# Altium integrated library TI Power Management Step-Down Regulator.IntLib: 565 symbols (part 24 of 33)
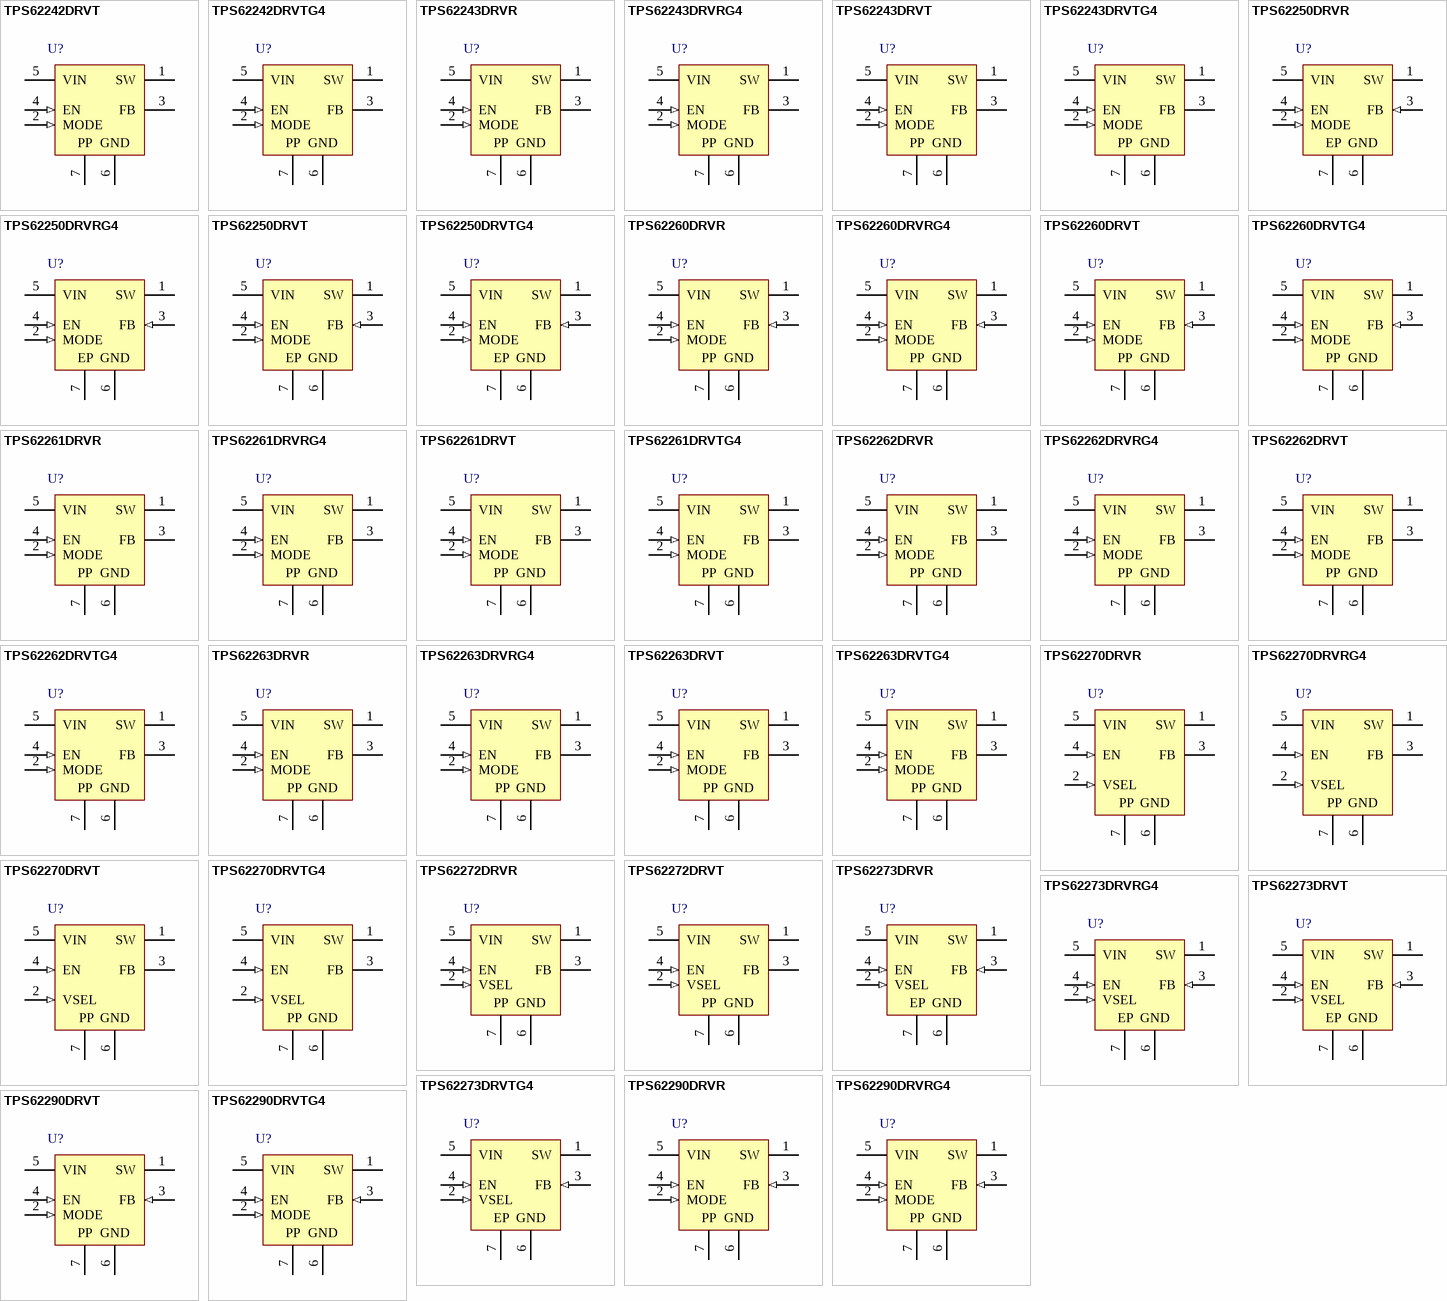
[diagram p42: symbols TPS62242DRVT to TPS62290DRVTG4]

## TPS62262DRVTG4
designator U?
Buck Step Down Regulator with 2 to 6 V Input and 1.2 V Output, -40 to 85 degC, 6-Pin SON (DRV), Green (RoHS & no Sb/Br); Manufacturer: Texas Instruments; PartNumber: TPS62262DRVTG4; Duty Cycle(Max)(%): 100; Iout(Max)(A): 0.6; Iq(Typ)(mA): 0.015; Preset Vout(V): 1.2; Rating: Catalog; Regulated Outputs(#): 1; SubFamily: Step-Down Regulator; Synchronous Rectification: TRUE; Vin(Max)(V): 6; Vin(Min)(V): 2; DatasheetVersion: SLVS763D; PackageVersion: revE, Oct-2010; PackageReference: DRV6-1600X1000TP; PackageDescription: 6-Pin Plastic Small Outline No-Lead, 2 x 2 x 0.8 mm Body, 0.65 mm Pitch, Exposed Pad; Supplier 1: Digi-Key; Supplier Part Number 1: TPS62262DRVTG4-ND; Eco-Plan: Green (RoHS & no Sb/Br); Switch Current Limit(Typ)(A): 1; Topology: Buck; Vout(Max)(V): 1.2; Vout(Min)(V): 1.2; Mounting Technology: Surface Mount; ComponentLink1Description: Datasheet; ComponentLink1URL: http://www.ti.com/general/docs/lit/getliterature.tsp?genericPartNumber=TPS62262&fileType=pdf; ComponentLink2Description: Package Specification; ComponentLink2URL: http://www.ti.com/litv/pdf/mpds216d; ComponentLink3Description: URL Link1; ComponentLink3URL: Samples URL:http://www.ti.com/product/tps54611#samples
footprint DRV6-1600X1000TP (SON, 6-Leads, Body 2x2mm, Pitch 0.65mm, Thermal Pad 1.6x1mm, TI Recommended)
pins: 1 SW (power) "This is the switch pin and is connected to the internal MOSFET switches. Connect the external inductor between this terminal and the output capacitor.", 2 MODE (in) "This pin is only available at QFN package option. MODE pin = high forces the device to operate in fixed frequency PWM mode. MODE pin = low enables the Power Save Mode with automatic transition from PFM mode to fixed (See Datasheet)", 3 FB "Feedback Pin for the internal regulation loop. Connect the external resistor divider to this pin. In case of fixed output voltage option, connect this pin directly to the output capacitor", 4 EN (in) "This is the enable pin of the device. Pulling this pin to low forces the device into shutdown mode. Pulling this pin to high enables the device. This pin must be terminated.", 5 VIN (power) "VIN power supply pin.", 6 GND (power) "GND supply pin", 7 PP (power) "Exposed Thermal Pad"

## TPS62263DRVR
designator U?
Buck Step Down Regulator with 2 to 6 V Input and 2.5 V Output, -40 to 85 degC, 6-Pin SON (DRV), Green (RoHS & no Sb/Br); Manufacturer: Texas Instruments; PartNumber: TPS62263DRVR; Duty Cycle(Max)(%): 100; Iout(Max)(A): 0.6; Iq(Typ)(mA): 0.015; Preset Vout(V): 2.5; Rating: Catalog; Regulated Outputs(#): 1; SubFamily: Step-Down Regulator; Synchronous Rectification: TRUE; Vin(Max)(V): 6; Vin(Min)(V): 2; DatasheetVersion: SLVS763D; PackageVersion: revE, Oct-2010; PackageReference: DRV6-1600X1000TP; PackageDescription: 6-Pin Plastic Small Outline No-Lead, 2 x 2 x 0.8 mm Body, 0.65 mm Pitch, Exposed Pad; Supplier 1: Digi-Key; Supplier Part Number 1: 296-23303-2-ND; Eco-Plan: Green (RoHS & no Sb/Br); Switch Current Limit(Typ)(A): 1; Topology: Buck; Vout(Max)(V): 2.5; Vout(Min)(V): 2.5; Mounting Technology: Surface Mount; ComponentLink1Description: Datasheet; ComponentLink1URL: http://www.ti.com/general/docs/lit/getliterature.tsp?genericPartNumber=TPS62263&fileType=pdf; ComponentLink2Description: Package Specification; ComponentLink2URL: http://www.ti.com/litv/pdf/mpds216d; ComponentLink3Description: URL Link1; ComponentLink3URL: Samples URL:http://www.ti.com/product/tps62263#samples
footprint DRV6-1600X1000TP (SON, 6-Leads, Body 2x2mm, Pitch 0.65mm, Thermal Pad 1.6x1mm, TI Recommended)
pins: 1 SW (power) "This is the switch pin and is connected to the internal MOSFET switches. Connect the external inductor between this terminal and the output capacitor.", 2 MODE (in) "MODE pin = high forces the device to operate in fixed-frequency PWM mode. Mode pin = low enables the Power Save Mode with automatic transition from PFM mode to fixed-frequency PWM mode", 3 FB "Feedback Pin for the internal regulation loop. Connect the external resistor divider to this pin. In case of fixed output voltage option, connect this pin directly to the output capacitor", 4 EN (in) "This is the enable pin of the device. Pulling this pin to low forces the device into shutdown mode. Pulling this pin to high enables the device. This pin must be terminated.", 5 VIN (power) "VIN power supply pin", 6 GND (power) "GND supply pin", 7 PP (power) "Exposed Thermal Pad"

## TPS62263DRVRG4
designator U?
Buck Step Down Regulator with 2 to 6 V Input and 2.5 V Output, -40 to 85 degC, 6-Pin SON (DRV), Green (RoHS & no Sb/Br); Manufacturer: Texas Instruments; PartNumber: TPS62263DRVRG4; Duty Cycle(Max)(%): 100; Iout(Max)(A): 0.6; Iq(Typ)(mA): 0.015; Preset Vout(V): 2.5; Rating: Catalog; Regulated Outputs(#): 1; SubFamily: Step-Down Regulator; Synchronous Rectification: TRUE; Vin(Max)(V): 6; Vin(Min)(V): 2; DatasheetVersion: SLVS763D; PackageVersion: revE, Oct-2010; PackageReference: DRV6-1600X1000TP; PackageDescription: 6-Pin Plastic Small Outline No-Lead, 2 x 2 x 0.8 mm Body, 0.65 mm Pitch, Exposed Pad; Supplier 1: Digi-Key; Supplier Part Number 1: TPS62263DRVRG4-ND; Eco-Plan: Green (RoHS & no Sb/Br); Switch Current Limit(Typ)(A): 1; Topology: Buck; Vout(Max)(V): 2.5; Vout(Min)(V): 2.5; Mounting Technology: Surface Mount; ComponentLink1Description: Datasheet; ComponentLink1URL: http://www.ti.com/general/docs/lit/getliterature.tsp?genericPartNumber=TPS62263&fileType=pdf; ComponentLink2Description: Package Specification; ComponentLink2URL: http://www.ti.com/litv/pdf/mpds216d; ComponentLink3Description: URL Link1; ComponentLink3URL: Samples URL:http://www.ti.com/product/tps62263#samples
footprint DRV6-1600X1000TP (SON, 6-Leads, Body 2x2mm, Pitch 0.65mm, Thermal Pad 1.6x1mm, TI Recommended)
pins: 1 SW (power) "This is the switch pin and is connected to the internal MOSFET switches. Connect the external inductor between this terminal and the output capacitor.", 2 MODE (in) "MODE pin = high forces the device to operate in fixed-frequency PWM mode. Mode pin = low enables the Power Save Mode with automatic transition from PFM mode to fixed-frequency PWM mode", 3 FB "Feedback Pin for the internal regulation loop. Connect the external resistor divider to this pin. In case of fixed output voltage option, connect this pin directly to the output capacitor", 4 EN (in) "This is the enable pin of the device. Pulling this pin to low forces the device into shutdown mode. Pulling this pin to high enables the device. This pin must be terminated.", 5 VIN (power) "VIN power supply pin", 6 GND (power) "GND supply pin", 7 PP (power) "Exposed Thermal Pad"

## TPS62263DRVT
designator U?
Buck Step Down Regulator with 2 to 6 V Input and 2.5 V Output, -40 to 85 degC, 6-Pin SON (DRV), Green (RoHS & no Sb/Br); Manufacturer: Texas Instruments; PartNumber: TPS62263DRVT; Duty Cycle(Max)(%): 100; Iout(Max)(A): 0.6; Iq(Typ)(mA): 0.015; Preset Vout(V): 2.5; Rating: Catalog; Regulated Outputs(#): 1; SubFamily: Step-Down Regulator; Synchronous Rectification: TRUE; Vin(Max)(V): 6; Vin(Min)(V): 2; DatasheetVersion: SLVS763D; PackageVersion: revE, Oct-2010; PackageReference: DRV6-1600X1000TP; PackageDescription: 6-Pin Plastic Small Outline No-Lead, 2 x 2 x 0.8 mm Body, 0.65 mm Pitch, Exposed Pad; Supplier 1: Digi-Key; Supplier Part Number 1: TPS62263DRVT-ND; Eco-Plan: Green (RoHS & no Sb/Br); Switch Current Limit(Typ)(A): 1; Topology: Buck; Vout(Max)(V): 2.5; Vout(Min)(V): 2.5; Mounting Technology: Surface Mount; ComponentLink1Description: Datasheet; ComponentLink1URL: http://www.ti.com/general/docs/lit/getliterature.tsp?genericPartNumber=TPS62263&fileType=pdf; ComponentLink2Description: Package Specification; ComponentLink2URL: http://www.ti.com/litv/pdf/mpds216d; ComponentLink3Description: URL Link1; ComponentLink3URL: Samples URL:http://www.ti.com/product/tps62263#samples
footprint DRV6-1600X1000TP (SON, 6-Leads, Body 2x2mm, Pitch 0.65mm, Thermal Pad 1.6x1mm, TI Recommended)
pins: 1 SW (power) "This is the switch pin and is connected to the internal MOSFET switches. Connect the external inductor between this terminal and the output capacitor.", 2 MODE (in) "MODE pin = high forces the device to operate in fixed-frequency PWM mode. Mode pin = low enables the Power Save Mode with automatic transition from PFM mode to fixed-frequency PWM mode", 3 FB "Feedback Pin for the internal regulation loop. Connect the external resistor divider to this pin. In case of fixed output voltage option, connect this pin directly to the output capacitor", 4 EN (in) "This is the enable pin of the device. Pulling this pin to low forces the device into shutdown mode. Pulling this pin to high enables the device. This pin must be terminated.", 5 VIN (power) "VIN power supply pin", 6 GND (power) "GND supply pin", 7 PP (power) "Exposed Thermal Pad"

## TPS62263DRVTG4
designator U?
Buck Step Down Regulator with 2 to 6 V Input and 2.5 V Output, -40 to 85 degC, 6-Pin SON (DRV), Green (RoHS & no Sb/Br); Manufacturer: Texas Instruments; PartNumber: TPS62263DRVTG4; Duty Cycle(Max)(%): 100; Iout(Max)(A): 0.6; Iq(Typ)(mA): 0.015; Preset Vout(V): 2.5; Rating: Catalog; Regulated Outputs(#): 1; SubFamily: Step-Down Regulator; Synchronous Rectification: TRUE; Vin(Max)(V): 6; Vin(Min)(V): 2; DatasheetVersion: SLVS763D; PackageVersion: revE, Oct-2010; PackageReference: DRV6-1600X1000TP; PackageDescription: 6-Pin Plastic Small Outline No-Lead, 2 x 2 x 0.8 mm Body, 0.65 mm Pitch, Exposed Pad; Supplier 1: Digi-Key; Supplier Part Number 1: TPS62263DRVTG4-ND; Eco-Plan: Green (RoHS & no Sb/Br); Switch Current Limit(Typ)(A): 1; Topology: Buck; Vout(Max)(V): 2.5; Vout(Min)(V): 2.5; Mounting Technology: Surface Mount; ComponentLink1Description: Datasheet; ComponentLink1URL: http://www.ti.com/general/docs/lit/getliterature.tsp?genericPartNumber=TPS62263&fileType=pdf; ComponentLink2Description: Package Specification; ComponentLink2URL: http://www.ti.com/litv/pdf/mpds216d; ComponentLink3Description: URL Link1; ComponentLink3URL: Samples URL:http://www.ti.com/product/tps54611#samples
footprint DRV6-1600X1000TP (SON, 6-Leads, Body 2x2mm, Pitch 0.65mm, Thermal Pad 1.6x1mm, TI Recommended)
pins: 1 SW (power) "This is the switch pin and is connected to the internal MOSFET switches. Connect the external inductor between this terminal and the output capacitor.", 2 MODE (in) "MODE pin = high forces the device to operate in fixed-frequency PWM mode. Mode pin = low enables the Power Save Mode with automatic transition from PFM mode to fixed-frequency PWM mode", 3 FB "Feedback Pin for the internal regulation loop. Connect the external resistor divider to this pin. In case of fixed output voltage option, connect this pin directly to the output capacitor", 4 EN (in) "This is the enable pin of the device. Pulling this pin to low forces the device into shutdown mode. Pulling this pin to high enables the device. This pin must be terminated.", 5 VIN (power) "VIN power supply pin", 6 GND (power) "GND supply pin", 7 PP (power) "Exposed Thermal Pad"

## TPS62270DRVR
designator U?
Buck Step Down Regulator with 2 to 6 V Input and 0.9 to 1.15 V Output, -40 to 85 degC, 6-Pin SON (DRV), Green (RoHS & no Sb/Br); Manufacturer: Texas Instruments; PartNumber: TPS62270DRVR; Duty Cycle(Max)(%): 100; Dynamic Voltage Scaling: TRUE; Iout(Max)(A): 0.4; Iq(Typ)(mA): 0.015; Rating: Catalog; Regulated Outputs(#): 1; SubFamily: Step-Down Regulator; Switch Current Limit(Typ)(A): 0.7; Vin(Max)(V): 6; Vin(Min)(V): 2; Vout(Max)(V): 1.15; Vout(Min)(V): 0.9; DatasheetVersion: SLVS799C; PackageVersion: revE, Oct-2010; PackageReference: DRV6-1600X1000TP; PackageDescription: 6-Pin Plastic Small Outline No-Lead, 2 x 2 x 0.8 mm Body, 0.65 mm Pitch, Exposed Pad; Supplier 1: Digi-Key; Supplier Part Number 1: 296-23427-2-ND; Eco-Plan: Green (RoHS & no Sb/Br); Synchronous Rectification: TRUE; Topology: Buck; Mounting Technology: Surface Mount; ComponentLink1Description: Datasheet; ComponentLink1URL: http://www.ti.com/general/docs/lit/getliterature.tsp?genericPartNumber=TPS62270&fileType=pdf; ComponentLink2Description: Package Specification; ComponentLink2URL: http://www.ti.com/litv/pdf/mpds216d; ComponentLink3Description: URL Link1; ComponentLink3URL: Samples URL:http://www.ti.com/product/tps62270#samples
footprint DRV6-1600X1000TP (SON, 6-Leads, Body 2x2mm, Pitch 0.65mm, Thermal Pad 1.6x1mm, TI Recommended)
pins: 1 SW (power) "This is the switch pin and is connected to the internal MOSFET switches. Connect the inductor to this terminal.", 2 VSEL (in) "Voltage Select input. Please refer to table ordering information for available output voltage selections.", 3 FB "Feedback Pin for the internal regulation loop. Connect the external resistor divider to this pin. In case of fixed output voltage option, connect this pin directly to the output capacitor", 4 EN (in) "This is the enable pin of the device. Pulling this pin to low forces the device into shutdown mode. Pulling this pin to high enables the device. This pin must be terminated.", 5 VIN (power) "VIN power supply pin", 6 GND (power) "GND supply pin", 7 PP (power) "Exposed Thermal Pad"

## TPS62270DRVRG4
designator U?
Buck Step Down Regulator with 2 to 6 V Input and 0.9 to 1.15 V Output, -40 to 85 degC, 6-Pin SON (DRV), Green (RoHS & no Sb/Br); Manufacturer: Texas Instruments; PartNumber: TPS62270DRVRG4; Duty Cycle(Max)(%): 100; Dynamic Voltage Scaling: TRUE; Iout(Max)(A): 0.4; Iq(Typ)(mA): 0.015; Rating: Catalog; Regulated Outputs(#): 1; SubFamily: Step-Down Regulator; Switch Current Limit(Typ)(A): 0.7; Vin(Max)(V): 6; Vin(Min)(V): 2; Vout(Max)(V): 1.15; Vout(Min)(V): 0.9; DatasheetVersion: SLVS799C; PackageVersion: revE, Oct-2010; PackageReference: DRV6-1600X1000TP; PackageDescription: 6-Pin Plastic Small Outline No-Lead, 2 x 2 x 0.8 mm Body, 0.65 mm Pitch, Exposed Pad; Supplier 1: Digi-Key; Supplier Part Number 1: TPS62270DRVRG4-ND; Eco-Plan: Green (RoHS & no Sb/Br); Synchronous Rectification: TRUE; Topology: Buck; Mounting Technology: Surface Mount; ComponentLink1Description: Datasheet; ComponentLink1URL: http://www.ti.com/general/docs/lit/getliterature.tsp?genericPartNumber=TPS62270&fileType=pdf; ComponentLink2Description: Package Specification; ComponentLink2URL: http://www.ti.com/litv/pdf/mpds216d; ComponentLink3Description: URL Link1; ComponentLink3URL: Samples URL:http://www.ti.com/product/tps62270#samples
footprint DRV6-1600X1000TP (SON, 6-Leads, Body 2x2mm, Pitch 0.65mm, Thermal Pad 1.6x1mm, TI Recommended)
pins: 1 SW (power) "This is the switch pin and is connected to the internal MOSFET switches. Connect the inductor to this terminal.", 2 VSEL (in) "Voltage Select input. Please refer to table ordering information for available output voltage selections.", 3 FB "Feedback Pin for the internal regulation loop. Connect the external resistor divider to this pin. In case of fixed output voltage option, connect this pin directly to the output capacitor", 4 EN (in) "This is the enable pin of the device. Pulling this pin to low forces the device into shutdown mode. Pulling this pin to high enables the device. This pin must be terminated.", 5 VIN (power) "VIN power supply pin", 6 GND (power) "GND supply pin", 7 PP (power) "Exposed Thermal Pad"

## TPS62270DRVT
designator U?
Buck Step Down Regulator with 2 to 6 V Input and 0.9 to 1.15 V Output, -40 to 85 degC, 6-Pin SON (DRV), Green (RoHS & no Sb/Br); Manufacturer: Texas Instruments; PartNumber: TPS62270DRVT; Duty Cycle(Max)(%): 100; Dynamic Voltage Scaling: TRUE; Iout(Max)(A): 0.4; Iq(Typ)(mA): 0.015; Rating: Catalog; Regulated Outputs(#): 1; SubFamily: Step-Down Regulator; Switch Current Limit(Typ)(A): 0.7; Vin(Max)(V): 6; Vin(Min)(V): 2; Vout(Max)(V): 1.15; Vout(Min)(V): 0.9; DatasheetVersion: SLVS799C; PackageVersion: revE, Oct-2010; PackageReference: DRV6-1600X1000TP; PackageDescription: 6-Pin Plastic Small Outline No-Lead, 2 x 2 x 0.8 mm Body, 0.65 mm Pitch, Exposed Pad; Supplier 1: Digi-Key; Supplier Part Number 1: TPS62270DRVT-ND; Eco-Plan: Green (RoHS & no Sb/Br); Synchronous Rectification: TRUE; Topology: Buck; Mounting Technology: Surface Mount; ComponentLink1Description: Datasheet; ComponentLink1URL: http://www.ti.com/general/docs/lit/getliterature.tsp?genericPartNumber=TPS62270&fileType=pdf; ComponentLink2Description: Package Specification; ComponentLink2URL: http://www.ti.com/litv/pdf/mpds216d; ComponentLink3Description: URL Link1; ComponentLink3URL: Samples URL:http://www.ti.com/product/tps62270#samples
footprint DRV6-1600X1000TP (SON, 6-Leads, Body 2x2mm, Pitch 0.65mm, Thermal Pad 1.6x1mm, TI Recommended)
pins: 1 SW (power) "This is the switch pin and is connected to the internal MOSFET switches. Connect the inductor to this terminal.", 2 VSEL (in) "Voltage Select input. Please refer to table ordering information for available output voltage selections.", 3 FB "Feedback Pin for the internal regulation loop. Connect the external resistor divider to this pin. In case of fixed output voltage option, connect this pin directly to the output capacitor", 4 EN (in) "This is the enable pin of the device. Pulling this pin to low forces the device into shutdown mode. Pulling this pin to high enables the device. This pin must be terminated.", 5 VIN (power) "VIN power supply pin", 6 GND (power) "GND supply pin", 7 PP (power) "Exposed Thermal Pad"

## TPS62270DRVTG4
designator U?
Buck Step Down Regulator with 2 to 6 V Input and 0.9 to 1.15 V Output, -40 to 85 degC, 6-Pin SON (DRV), Green (RoHS & no Sb/Br); Manufacturer: Texas Instruments; PartNumber: TPS62270DRVTG4; Duty Cycle(Max)(%): 100; Dynamic Voltage Scaling: TRUE; Iout(Max)(A): 0.4; Iq(Typ)(mA): 0.015; Rating: Catalog; Regulated Outputs(#): 1; SubFamily: Step-Down Regulator; Switch Current Limit(Typ)(A): 0.7; Vin(Max)(V): 6; Vin(Min)(V): 2; Vout(Max)(V): 1.15; Vout(Min)(V): 0.9; DatasheetVersion: SLVS799C; PackageVersion: revE, Oct-2010; PackageReference: DRV6-1600X1000TP; PackageDescription: 6-Pin Plastic Small Outline No-Lead, 2 x 2 x 0.8 mm Body, 0.65 mm Pitch, Exposed Pad; Supplier 1: Digi-Key; Supplier Part Number 1: TPS62270DRVTG4-ND; Eco-Plan: Green (RoHS & no Sb/Br); Synchronous Rectification: TRUE; Topology: Buck; Mounting Technology: Surface Mount; ComponentLink1Description: Datasheet; ComponentLink1URL: http://www.ti.com/general/docs/lit/getliterature.tsp?genericPartNumber=TPS62270&fileType=pdf; ComponentLink2Description: Package Specification; ComponentLink2URL: http://www.ti.com/litv/pdf/mpds216d; ComponentLink3Description: URL Link1; ComponentLink3URL: Samples URL:http://www.ti.com/product/tps54611#samples
footprint DRV6-1600X1000TP (SON, 6-Leads, Body 2x2mm, Pitch 0.65mm, Thermal Pad 1.6x1mm, TI Recommended)
pins: 1 SW (power) "This is the switch pin and is connected to the internal MOSFET switches. Connect the inductor to this terminal.", 2 VSEL (in) "Voltage Select input. Please refer to table ordering information for available output voltage selections.", 3 FB "Feedback Pin for the internal regulation loop. Connect the external resistor divider to this pin. In case of fixed output voltage option, connect this pin directly to the output capacitor", 4 EN (in) "This is the enable pin of the device. Pulling this pin to low forces the device into shutdown mode. Pulling this pin to high enables the device. This pin must be terminated.", 5 VIN (power) "VIN power supply pin", 6 GND (power) "GND supply pin", 7 PP (power) "Exposed Thermal Pad"

## TPS62272DRVR
designator U?
Buck Step Down Regulator with 2 to 6 V Input and 2.1 to 3.3 V Output, -40 to 85 degC, 6-Pin SON (DRV), Green (RoHS & no Sb/Br); Manufacturer: Texas Instruments; PartNumber: TPS62272DRVR; Duty Cycle(Max)(%): 100; Dynamic Voltage Scaling: TRUE; Iout(Max)(A): 0.4; Iq(Typ)(mA): 0.015; Rating: Catalog; Regulated Outputs(#): 1; SubFamily: Step-Down Regulator; Switch Current Limit(Typ)(A): 0.7; Vin(Max)(V): 6; Vin(Min)(V): 2; Vout(Max)(V): 2.1; Vout(Min)(V): 3.3; DatasheetVersion: SLVS799C; PackageVersion: revE, Oct-2010; PackageReference: DRV6-1600X1000TP; PackageDescription: 6-Pin Plastic Small Outline No-Lead, 2 x 2 x 0.8 mm Body, 0.65 mm Pitch, Exposed Pad; Supplier 1: Digi-Key; Supplier Part Number 1: 296-24205-2-ND; Eco-Plan: Green (RoHS & no Sb/Br); Synchronous Rectification: TRUE; Topology: Buck; Mounting Technology: Surface Mount; ComponentLink1Description: Datasheet; ComponentLink1URL: http://www.ti.com/general/docs/lit/getliterature.tsp?genericPartNumber=TPS62272&fileType=pdf; ComponentLink2Description: Package Specification; ComponentLink2URL: http://www.ti.com/litv/pdf/mpds216d; ComponentLink3Description: URL Link1; ComponentLink3URL: Samples URL:http://www.ti.com/product/tps62272#samples
footprint DRV6-1600X1000TP (SON, 6-Leads, Body 2x2mm, Pitch 0.65mm, Thermal Pad 1.6x1mm, TI Recommended)
pins: 1 SW (power) "This is the switch pin and is connected to the internal MOSFET switches. Connect the inductor to this terminal", 2 VSEL (in) "Voltage Select input. Please refer to table ordering information for available output voltage selections.", 3 FB "Feedback Pin for the internal regulation loop. Connect the external resistor divider to this pin. In case of fixed output voltage option, connect this pin directly to the output capacitor", 4 EN (in) "This is the enable pin of the device. Pulling this pin to low forces the device into shutdown mode. Pulling this pin to high enables the device. This pin must be terminated.", 5 VIN (power) "VIN power supply pin.", 6 GND (power) "GND supply pin", 7 PP (power) "Exposed thermal pad."

## TPS62272DRVT
designator U?
Buck Step Down Regulator with 2 to 6 V Input and 2.1 to 3.3 V Output, -40 to 85 degC, 6-Pin SON (DRV), Green (RoHS & no Sb/Br); Manufacturer: Texas Instruments; PartNumber: TPS62272DRVT; Duty Cycle(Max)(%): 100; Dynamic Voltage Scaling: TRUE; Iout(Max)(A): 0.4; Iq(Typ)(mA): 0.015; Rating: Catalog; Regulated Outputs(#): 1; SubFamily: Step-Down Regulator; Switch Current Limit(Typ)(A): 0.7; Vin(Max)(V): 6; Vin(Min)(V): 2; Vout(Max)(V): 2.1; Vout(Min)(V): 3.3; DatasheetVersion: SLVS799C; PackageVersion: revE, Oct-2010; PackageReference: DRV6-1600X1000TP; PackageDescription: 6-Pin Plastic Small Outline No-Lead, 2 x 2 x 0.8 mm Body, 0.65 mm Pitch, Exposed Pad; Supplier 1: Digi-Key; Supplier Part Number 1: TPS62272DRVT-ND; Eco-Plan: Green (RoHS & no Sb/Br); Synchronous Rectification: TRUE; Topology: Buck; Mounting Technology: Surface Mount; ComponentLink1Description: Datasheet; ComponentLink1URL: http://www.ti.com/general/docs/lit/getliterature.tsp?genericPartNumber=TPS62272&fileType=pdf; ComponentLink2Description: Package Specification; ComponentLink2URL: http://www.ti.com/litv/pdf/mpds216d; ComponentLink3Description: URL Link1; ComponentLink3URL: Samples URL:http://www.ti.com/product/tps54611#samples
footprint DRV6-1600X1000TP (SON, 6-Leads, Body 2x2mm, Pitch 0.65mm, Thermal Pad 1.6x1mm, TI Recommended)
pins: 1 SW (power) "This is the switch pin and is connected to the internal MOSFET switches. Connect the inductor to this terminal", 2 VSEL (in) "Voltage Select input. Please refer to table ordering information for available output voltage selections.", 3 FB "Feedback Pin for the internal regulation loop. Connect the external resistor divider to this pin. In case of fixed output voltage option, connect this pin directly to the output capacitor", 4 EN (in) "This is the enable pin of the device. Pulling this pin to low forces the device into shutdown mode. Pulling this pin to high enables the device. This pin must be terminated.", 5 VIN (power) "VIN power supply pin.", 6 GND (power) "GND supply pin", 7 PP (power) "Exposed thermal pad."

## TPS62273DRVR
designator U?
Buck Step Down Regulator with 2 to 6 V Input and 2.5 to 3.3 V Output, -40 to 85 degC, 6-Pin SON (DRV), Green (RoHS & no Sb/Br); Manufacturer: Texas Instruments; PartNumber: TPS62273DRVR; Duty Cycle(Max)(%): 100; Dynamic Voltage Scaling: TRUE; Iout(Max)(A): 0.4; Iq(Typ)(mA): 0.015; Rating: Catalog; Regulated Outputs(#): 1; SubFamily: Step-Down Regulator; Switch Current Limit(Typ)(A): 0.7; Vin(Max)(V): 6; Vin(Min)(V): 2; Vout(Max)(V): 2.5; Vout(Min)(V): 3.3; DatasheetVersion: SLVS799C; PackageVersion: revE, Oct-2010; PackageReference: DRV6-1600X1000TP; PackageDescription: 6-Pin Plastic Small Outline No-Lead, 2 x 2 x 0.8 mm Body, 0.65 mm Pitch, Exposed Pad; Supplier 1: Digi-Key; Supplier Part Number 1: 296-23552-2-ND; Eco-Plan: Green (RoHS & no Sb/Br); Synchronous Rectification: TRUE; Topology: Buck; Mounting Technology: Surface Mount; ComponentLink1Description: Datasheet; ComponentLink1URL: http://www.ti.com/general/docs/lit/getliterature.tsp?genericPartNumber=TPS62273&fileType=pdf; ComponentLink2Description: Package Specification; ComponentLink2URL: http://www.ti.com/litv/pdf/mpds216d; ComponentLink3Description: URL Link1; ComponentLink3URL: Samples URL:http://www.ti.com/product/tps62273#samples
footprint DRV6-1600X1000TP (SON, 6-Leads, Body 2x2mm, Pitch 0.65mm, Thermal Pad 1.6x1mm, TI Recommended)
pins: 1 SW (power) "This is the switch pin and is connected to the internal MOSFET switches. Connect the inductor to this terminal", 2 VSEL (in) "Voltage Select input. Please refer to table ordering information for available output voltage selections.", 3 FB (in) "Feedback Pin for the internal regulation loop. Connect the external resistor divider to this pin. In case of fixed output voltage option, connect this pin directly to the output capacitor", 4 EN (in) "This is the enable pin of the device. Pulling this pin to low forces the device into shutdown mode. Pulling this pin to high enables the device. This pin must be terminated.", 5 VIN (power) "VIN power supply pin.", 6 GND (power) "GND supply pin", 7 EP (power) "Exposed Pad"

## TPS62273DRVRG4
designator U?
Buck Step Down Regulator with 2 to 6 V Input and 2.5 to 3.3 V Output, -40 to 85 degC, 6-Pin SON (DRV), Green (RoHS & no Sb/Br); Manufacturer: Texas Instruments; PartNumber: TPS62273DRVRG4; Duty Cycle(Max)(%): 100; Dynamic Voltage Scaling: TRUE; Iout(Max)(A): 0.4; Iq(Typ)(mA): 0.015; Rating: Catalog; Regulated Outputs(#): 1; SubFamily: Step-Down Regulator; Switch Current Limit(Typ)(A): 0.7; Vin(Max)(V): 6; Vin(Min)(V): 2; Vout(Max)(V): 2.5; Vout(Min)(V): 3.3; DatasheetVersion: SLVS799C; PackageVersion: revE, Oct-2010; PackageReference: DRV6-1600X1000TP; PackageDescription: 6-Pin Plastic Small Outline No-Lead, 2 x 2 x 0.8 mm Body, 0.65 mm Pitch, Exposed Pad; Supplier 1: Digi-Key; Supplier Part Number 1: TPS62273DRVRG4-ND; Eco-Plan: Green (RoHS & no Sb/Br); Synchronous Rectification: TRUE; Topology: Buck; Mounting Technology: Surface Mount; ComponentLink1Description: Datasheet; ComponentLink1URL: http://www.ti.com/general/docs/lit/getliterature.tsp?genericPartNumber=TPS62273&fileType=pdf; ComponentLink2Description: Package Specification; ComponentLink2URL: http://www.ti.com/litv/pdf/mpds216d; ComponentLink3Description: URL Link1; ComponentLink3URL: Samples URL:http://www.ti.com/product/tps62273#samples
footprint DRV6-1600X1000TP (SON, 6-Leads, Body 2x2mm, Pitch 0.65mm, Thermal Pad 1.6x1mm, TI Recommended)
pins: 1 SW (power) "This is the switch pin and is connected to the internal MOSFET switches. Connect the inductor to this terminal", 2 VSEL (in) "Voltage Select input. Please refer to table ordering information for available output voltage selections.", 3 FB (in) "Feedback Pin for the internal regulation loop. Connect the external resistor divider to this pin. In case of fixed output voltage option, connect this pin directly to the output capacitor", 4 EN (in) "This is the enable pin of the device. Pulling this pin to low forces the device into shutdown mode. Pulling this pin to high enables the device. This pin must be terminated.", 5 VIN (power) "VIN power supply pin.", 6 GND (power) "GND supply pin", 7 EP (power) "Exposed Pad"

## TPS62273DRVT
designator U?
Buck Step Down Regulator with 2 to 6 V Input and 2.5 to 3.3 V Output, -40 to 85 degC, 6-Pin SON (DRV), Green (RoHS & no Sb/Br); Manufacturer: Texas Instruments; PartNumber: TPS62273DRVT; Duty Cycle(Max)(%): 100; Dynamic Voltage Scaling: TRUE; Iout(Max)(A): 0.4; Iq(Typ)(mA): 0.015; Rating: Catalog; Regulated Outputs(#): 1; SubFamily: Step-Down Regulator; Switch Current Limit(Typ)(A): 0.7; Vin(Max)(V): 6; Vin(Min)(V): 2; Vout(Max)(V): 2.5; Vout(Min)(V): 3.3; DatasheetVersion: SLVS799C; PackageVersion: revE, Oct-2010; PackageReference: DRV6-1600X1000TP; PackageDescription: 6-Pin Plastic Small Outline No-Lead, 2 x 2 x 0.8 mm Body, 0.65 mm Pitch, Exposed Pad; Supplier 1: Digi-Key; Supplier Part Number 1: 296-32507-2-ND; Eco-Plan: Green (RoHS & no Sb/Br); Synchronous Rectification: TRUE; Topology: Buck; Mounting Technology: Surface Mount; ComponentLink1Description: Datasheet; ComponentLink1URL: http://www.ti.com/general/docs/lit/getliterature.tsp?genericPartNumber=TPS62273&fileType=pdf; ComponentLink2Description: Package Specification; ComponentLink2URL: http://www.ti.com/litv/pdf/mpds216d; ComponentLink3Description: URL Link1; ComponentLink3URL: Samples URL:http://www.ti.com/product/tps62273#samples
footprint DRV6-1600X1000TP (SON, 6-Leads, Body 2x2mm, Pitch 0.65mm, Thermal Pad 1.6x1mm, TI Recommended)
pins: 1 SW (power) "This is the switch pin and is connected to the internal MOSFET switches. Connect the inductor to this terminal", 2 VSEL (in) "Voltage Select input. Please refer to table ordering information for available output voltage selections.", 3 FB (in) "Feedback Pin for the internal regulation loop. Connect the external resistor divider to this pin. In case of fixed output voltage option, connect this pin directly to the output capacitor", 4 EN (in) "This is the enable pin of the device. Pulling this pin to low forces the device into shutdown mode. Pulling this pin to high enables the device. This pin must be terminated.", 5 VIN (power) "VIN power supply pin.", 6 GND (power) "GND supply pin", 7 EP (power) "Exposed Pad"

## TPS62273DRVTG4
designator U?
Buck Step Down Regulator with 2 to 6 V Input and 2.5 to 3.3 V Output, -40 to 85 degC, 6-Pin SON (DRV), Green (RoHS & no Sb/Br); Manufacturer: Texas Instruments; PartNumber: TPS62273DRVTG4; Duty Cycle(Max)(%): 100; Dynamic Voltage Scaling: TRUE; Iout(Max)(A): 0.4; Iq(Typ)(mA): 0.015; Rating: Catalog; Regulated Outputs(#): 1; SubFamily: Step-Down Regulator; Switch Current Limit(Typ)(A): 0.7; Vin(Max)(V): 6; Vin(Min)(V): 2; Vout(Max)(V): 2.5; Vout(Min)(V): 3.3; DatasheetVersion: SLVS799C; PackageVersion: revE, Oct-2010; PackageReference: DRV6-1600X1000TP; PackageDescription: 6-Pin Plastic Small Outline No-Lead, 2 x 2 x 0.8 mm Body, 0.65 mm Pitch, Exposed Pad; Supplier 1: Digi-Key; Supplier Part Number 1: TPS62273DRVTG4-ND; Eco-Plan: Green (RoHS & no Sb/Br); Synchronous Rectification: TRUE; Topology: Buck; Mounting Technology: Surface Mount; ComponentLink1Description: Datasheet; ComponentLink1URL: http://www.ti.com/general/docs/lit/getliterature.tsp?genericPartNumber=TPS62273&fileType=pdf; ComponentLink2Description: Package Specification; ComponentLink2URL: http://www.ti.com/litv/pdf/mpds216d; ComponentLink3Description: URL Link1; ComponentLink3URL: Samples URL:http://www.ti.com/product/tps54611#samples
footprint DRV6-1600X1000TP (SON, 6-Leads, Body 2x2mm, Pitch 0.65mm, Thermal Pad 1.6x1mm, TI Recommended)
pins: 1 SW (power) "This is the switch pin and is connected to the internal MOSFET switches. Connect the inductor to this terminal", 2 VSEL (in) "Voltage Select input. Please refer to table ordering information for available output voltage selections.", 3 FB (in) "Feedback Pin for the internal regulation loop. Connect the external resistor divider to this pin. In case of fixed output voltage option, connect this pin directly to the output capacitor", 4 EN (in) "This is the enable pin of the device. Pulling this pin to low forces the device into shutdown mode. Pulling this pin to high enables the device. This pin must be terminated.", 5 VIN (power) "VIN power supply pin.", 6 GND (power) "GND supply pin", 7 EP (power) "Exposed Pad"

## TPS62290DRVR
designator U?
Buck Step Down Regulator with 2.3 to 6 V Input and 0.6 to 6 V Output, -40 to 85 degC, 6-Pin SON (DRV), Green (RoHS & no Sb/Br); Manufacturer: Texas Instruments; PartNumber: TPS62290DRVR; Duty Cycle(Max)(%): 100; Iout(Max)(A): 1; Iq(Typ)(mA): 0.015; Rating: Catalog; SubFamily: Step-Down Regulator; Switch Current Limit(Typ)(A): 1.4; Synchronous Rectification: TRUE; Vin(Max)(V): 6; Vin(Min)(V): 2.3; Vout(Min)(V): 0.6; DatasheetVersion: SLVS764C; PackageVersion: revE, Oct-2010; PackageReference: DRV6-1600X1000TP; PackageDescription: 6-Pin Plastic Small Outline No-Lead, 2 x 2 x 0.8 mm Body, 0.65 mm Pitch, Exposed Pad; Supplier 1: Digi-Key; Supplier Part Number 1: 296-27030-2-ND; Eco-Plan: Green (RoHS & no Sb/Br); Regulated Outputs(#): 1; Topology: Buck; Vout(Max)(V): 6; Mounting Technology: Surface Mount; ComponentLink1Description: Datasheet; ComponentLink1URL: http://www.ti.com/general/docs/lit/getliterature.tsp?genericPartNumber=TPS62290&fileType=pdf; ComponentLink2Description: Package Specification; ComponentLink2URL: http://www.ti.com/litv/pdf/mpds216d; ComponentLink3Description: URL Link1; ComponentLink3URL: Samples URL:http://www.ti.com/product/tps62290#samples
footprint DRV6-1600X1000TP (SON, 6-Leads, Body 2x2mm, Pitch 0.65mm, Thermal Pad 1.6x1mm, TI Recommended)
pins: 1 SW (power) "This is the switch pin and is connected to the internal MOSFET switches. Connect the external inductor between this terminal and the output capacitor.", 2 MODE (in) "MODE pin = high forces the device to operate in fixed frequency PWM mode. MODE pin = low enables the Power Save Mode with automatic transition from PFM mode to fixed frequency PWM mode.", 3 FB (in) "Feedback Pin for the internal regulation loop. Connect the external resistor divider to this pin. In case of fixed output voltage option, connect this pin directly to the output capacitor", 4 EN (in) "This is the enable pin of the device. Pulling this pin to low forces the device into shutdown mode. Pulling this pin to high enables the device. This pin must be terminated.", 5 VIN (power) "VIN power supply pin.", 6 GND (power) "GND supply pin", 7 PP (power) "Exposed Thermal Pad"

## TPS62290DRVRG4
designator U?
Buck Step Down Regulator with 2.3 to 6 V Input and 0.6 to 6 V Output, -40 to 85 degC, 6-Pin SON (DRV), Green (RoHS & no Sb/Br); Manufacturer: Texas Instruments; PartNumber: TPS62290DRVRG4; Duty Cycle(Max)(%): 100; Iout(Max)(A): 1; Iq(Typ)(mA): 0.015; Rating: Catalog; SubFamily: Step-Down Regulator; Switch Current Limit(Typ)(A): 1.4; Synchronous Rectification: TRUE; Vin(Max)(V): 6; Vin(Min)(V): 2.3; Vout(Min)(V): 0.6; DatasheetVersion: SLVS764C; PackageVersion: revE, Oct-2010; PackageReference: DRV6-1600X1000TP; PackageDescription: 6-Pin Plastic Small Outline No-Lead, 2 x 2 x 0.8 mm Body, 0.65 mm Pitch, Exposed Pad; Supplier 1: Digi-Key; Supplier Part Number 1: TPS62290DRVRG4-ND; Eco-Plan: Green (RoHS & no Sb/Br); Regulated Outputs(#): 1; Topology: Buck; Vout(Max)(V): 6; Mounting Technology: Surface Mount; ComponentLink1Description: Datasheet; ComponentLink1URL: http://www.ti.com/general/docs/lit/getliterature.tsp?genericPartNumber=TPS62290&fileType=pdf; ComponentLink2Description: Package Specification; ComponentLink2URL: http://www.ti.com/litv/pdf/mpds216d; ComponentLink3Description: URL Link1; ComponentLink3URL: Samples URL:http://www.ti.com/product/tps62290#samples
footprint DRV6-1600X1000TP (SON, 6-Leads, Body 2x2mm, Pitch 0.65mm, Thermal Pad 1.6x1mm, TI Recommended)
pins: 1 SW (power) "This is the switch pin and is connected to the internal MOSFET switches. Connect the external inductor between this terminal and the output capacitor.", 2 MODE (in) "MODE pin = high forces the device to operate in fixed frequency PWM mode. MODE pin = low enables the Power Save Mode with automatic transition from PFM mode to fixed frequency PWM mode.", 3 FB (in) "Feedback Pin for the internal regulation loop. Connect the external resistor divider to this pin. In case of fixed output voltage option, connect this pin directly to the output capacitor", 4 EN (in) "This is the enable pin of the device. Pulling this pin to low forces the device into shutdown mode. Pulling this pin to high enables the device. This pin must be terminated.", 5 VIN (power) "VIN power supply pin.", 6 GND (power) "GND supply pin", 7 PP (power) "Exposed Thermal Pad"

## TPS62290DRVT
designator U?
Buck Step Down Regulator with 2.3 to 6 V Input and 0.6 to 6 V Output, -40 to 85 degC, 6-Pin SON (DRV), Green (RoHS & no Sb/Br); Manufacturer: Texas Instruments; PartNumber: TPS62290DRVT; Duty Cycle(Max)(%): 100; Iout(Max)(A): 1; Iq(Typ)(mA): 0.015; Rating: Catalog; SubFamily: Step-Down Regulator; Switch Current Limit(Typ)(A): 1.4; Synchronous Rectification: TRUE; Vin(Max)(V): 6; Vin(Min)(V): 2.3; Vout(Min)(V): 0.6; DatasheetVersion: SLVS764C; PackageVersion: revE, Oct-2010; PackageReference: DRV6-1600X1000TP; PackageDescription: 6-Pin Plastic Small Outline No-Lead, 2 x 2 x 0.8 mm Body, 0.65 mm Pitch, Exposed Pad; Supplier 1: Digi-Key; Supplier Part Number 1: 296-22473-2-ND; Eco-Plan: Green (RoHS & no Sb/Br); Regulated Outputs(#): 1; Topology: Buck; Vout(Max)(V): 6; Mounting Technology: Surface Mount; ComponentLink1Description: Datasheet; ComponentLink1URL: http://www.ti.com/general/docs/lit/getliterature.tsp?genericPartNumber=TPS62290&fileType=pdf; ComponentLink2Description: Package Specification; ComponentLink2URL: http://www.ti.com/litv/pdf/mpds216d; ComponentLink3Description: URL Link1; ComponentLink3URL: Samples URL:http://www.ti.com/product/tps62290#samples
footprint DRV6-1600X1000TP (SON, 6-Leads, Body 2x2mm, Pitch 0.65mm, Thermal Pad 1.6x1mm, TI Recommended)
pins: 1 SW (power) "This is the switch pin and is connected to the internal MOSFET switches. Connect the external inductor between this terminal and the output capacitor.", 2 MODE (in) "MODE pin = high forces the device to operate in fixed frequency PWM mode. MODE pin = low enables the Power Save Mode with automatic transition from PFM mode to fixed frequency PWM mode.", 3 FB (in) "Feedback Pin for the internal regulation loop. Connect the external resistor divider to this pin. In case of fixed output voltage option, connect this pin directly to the output capacitor", 4 EN (in) "This is the enable pin of the device. Pulling this pin to low forces the device into shutdown mode. Pulling this pin to high enables the device. This pin must be terminated.", 5 VIN (power) "VIN power supply pin.", 6 GND (power) "GND supply pin", 7 PP (power) "Exposed Thermal Pad"

## TPS62290DRVTG4
designator U?
Buck Step Down Regulator with 2.3 to 6 V Input and 0.6 to 6 V Output, -40 to 85 degC, 6-Pin SON (DRV), Green (RoHS & no Sb/Br); Manufacturer: Texas Instruments; PartNumber: TPS62290DRVTG4; Duty Cycle(Max)(%): 100; Iout(Max)(A): 1; Iq(Typ)(mA): 0.015; Rating: Catalog; SubFamily: Step-Down Regulator; Switch Current Limit(Typ)(A): 1.4; Synchronous Rectification: TRUE; Vin(Max)(V): 6; Vin(Min)(V): 2.3; Vout(Min)(V): 0.6; DatasheetVersion: SLVS764C; PackageVersion: revE, Oct-2010; PackageReference: DRV6-1600X1000TP; PackageDescription: 6-Pin Plastic Small Outline No-Lead, 2 x 2 x 0.8 mm Body, 0.65 mm Pitch, Exposed Pad; Supplier 1: Digi-Key; Supplier Part Number 1: TPS62290DRVTG4-ND; Eco-Plan: Green (RoHS & no Sb/Br); Regulated Outputs(#): 1; Topology: Buck; Vout(Max)(V): 6; Mounting Technology: Surface Mount; ComponentLink1Description: Datasheet; ComponentLink1URL: http://www.ti.com/general/docs/lit/getliterature.tsp?genericPartNumber=TPS62290&fileType=pdf; ComponentLink2Description: Package Specification; ComponentLink2URL: http://www.ti.com/litv/pdf/mpds216d; ComponentLink3Description: URL Link1; ComponentLink3URL: Samples URL:http://www.ti.com/product/tps54611#samples
footprint DRV6-1600X1000TP (SON, 6-Leads, Body 2x2mm, Pitch 0.65mm, Thermal Pad 1.6x1mm, TI Recommended)
pins: 1 SW (power) "This is the switch pin and is connected to the internal MOSFET switches. Connect the external inductor between this terminal and the output capacitor.", 2 MODE (in) "MODE pin = high forces the device to operate in fixed frequency PWM mode. MODE pin = low enables the Power Save Mode with automatic transition from PFM mode to fixed frequency PWM mode.", 3 FB (in) "Feedback Pin for the internal regulation loop. Connect the external resistor divider to this pin. In case of fixed output voltage option, connect this pin directly to the output capacitor", 4 EN (in) "This is the enable pin of the device. Pulling this pin to low forces the device into shutdown mode. Pulling this pin to high enables the device. This pin must be terminated.", 5 VIN (power) "VIN power supply pin.", 6 GND (power) "GND supply pin", 7 PP (power) "Exposed Thermal Pad"

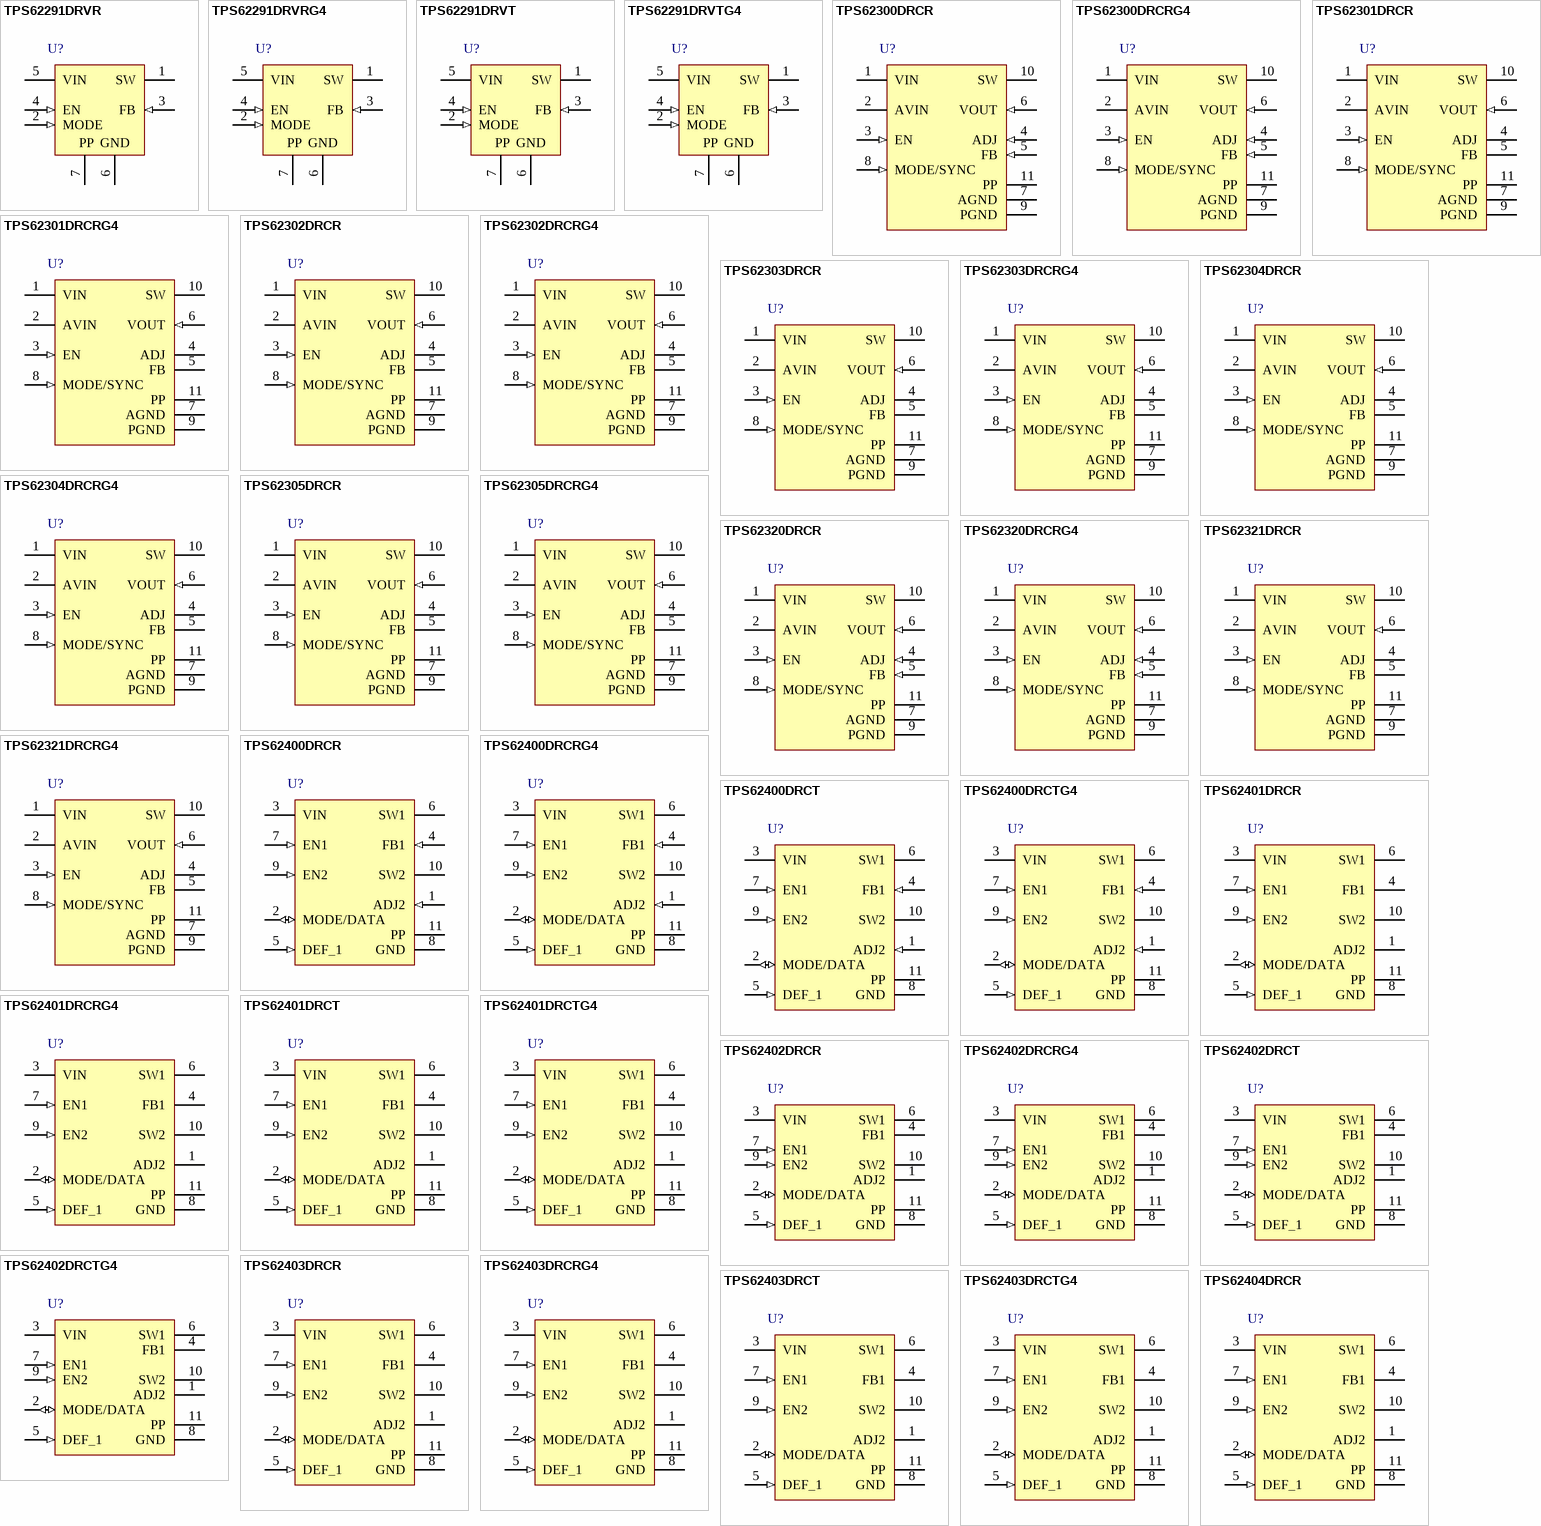
[diagram p13: symbols TPS62291DRVR to TPS62404DRCR]

## TPS62291DRVR
designator U?
Buck Step Down Regulator with 2.3 to 6 V Input and 3.3 V Output, -40 to 85 degC, 6-Pin SON (DRV), Green (RoHS & no Sb/Br); Manufacturer: Texas Instruments; PartNumber: TPS62291DRVR; Duty Cycle(Max)(%): 100; Iout(Max)(A): 1; Iq(Typ)(mA): 0.015; Preset Vout(V): 3.3; Rating: Catalog; SubFamily: Step-Down Regulator; Switch Current Limit(Typ)(A): 1.4; Synchronous Rectification: TRUE; Vin(Max)(V): 6; Vin(Min)(V): 2.3; DatasheetVersion: SLVS764C; PackageVersion: revE, Oct-2010; PackageReference: DRV6-1600X1000TP; PackageDescription: 6-Pin Plastic Small Outline No-Lead, 2 x 2 x 0.8 mm Body, 0.65 mm Pitch, Exposed Pad; Supplier 1: Digi-Key; Supplier Part Number 1: TPS62291DRVR-ND; Eco-Plan: Green (RoHS & no Sb/Br); Regulated Outputs(#): 1; Topology: Buck; Vout(Max)(V): 3.3; Vout(Min)(V): 3.3; Mounting Technology: Surface Mount; ComponentLink1Description: Datasheet; ComponentLink1URL: http://www.ti.com/general/docs/lit/getliterature.tsp?genericPartNumber=TPS62291&fileType=pdf; ComponentLink2Description: Package Specification; ComponentLink2URL: http://www.ti.com/litv/pdf/mpds216d; ComponentLink3Description: URL Link1; ComponentLink3URL: Samples URL:http://www.ti.com/product/tps62291#samples
footprint DRV6-1600X1000TP (SON, 6-Leads, Body 2x2mm, Pitch 0.65mm, Thermal Pad 1.6x1mm, TI Recommended)
pins: 1 SW (power) "This is the switch pin and is connected to the internal MOSFET switches. Connect the external inductor between this terminal and the output capacitor.", 2 MODE (in) "MODE pin = high forces the device to operate in fixed-frequency PWM mode. Mode pin = low enables the Power Save Mode with automatic transition from PFM mode to fixed-frequency PWM mode", 3 FB (in) "Feedback Pin for the internal regulation loop. Connect the external resistor divider to this pin. In case of fixed output voltage option, connect this pin directly to the output capacitor", 4 EN (in) "This is the enable pin of the device. Pulling this pin to low forces the device into shutdown mode. Pulling this pin to high enables the device. This pin must be terminated.", 5 VIN (power) "VIN power supply pin", 6 GND (power) "GND supply pin", 7 EP "Exposed Thermal Pad"
text: PP

## TPS62291DRVRG4
designator U?
Buck Step Down Regulator with 2.3 to 6 V Input and 3.3 V Output, -40 to 85 degC, 6-Pin SON (DRV), Green (RoHS & no Sb/Br); Manufacturer: Texas Instruments; PartNumber: TPS62291DRVRG4; Duty Cycle(Max)(%): 100; Iout(Max)(A): 1; Iq(Typ)(mA): 0.015; Preset Vout(V): 3.3; Rating: Catalog; SubFamily: Step-Down Regulator; Switch Current Limit(Typ)(A): 1.4; Synchronous Rectification: TRUE; Vin(Max)(V): 6; Vin(Min)(V): 2.3; DatasheetVersion: SLVS764C; PackageVersion: revE, Oct-2010; PackageReference: DRV6-1600X1000TP; PackageDescription: 6-Pin Plastic Small Outline No-Lead, 2 x 2 x 0.8 mm Body, 0.65 mm Pitch, Exposed Pad; Supplier 1: Digi-Key; Supplier Part Number 1: TPS62291DRVRG4-ND; Eco-Plan: Green (RoHS & no Sb/Br); Regulated Outputs(#): 1; Topology: Buck; Vout(Max)(V): 3.3; Vout(Min)(V): 3.3; Mounting Technology: Surface Mount; ComponentLink1Description: Datasheet; ComponentLink1URL: http://www.ti.com/general/docs/lit/getliterature.tsp?genericPartNumber=TPS62291&fileType=pdf; ComponentLink2Description: Package Specification; ComponentLink2URL: http://www.ti.com/litv/pdf/mpds216d; ComponentLink3Description: URL Link1; ComponentLink3URL: Samples URL:http://www.ti.com/product/tps62291#samples
footprint DRV6-1600X1000TP (SON, 6-Leads, Body 2x2mm, Pitch 0.65mm, Thermal Pad 1.6x1mm, TI Recommended)
pins: 1 SW (power) "This is the switch pin and is connected to the internal MOSFET switches. Connect the external inductor between this terminal and the output capacitor.", 2 MODE (in) "MODE pin = high forces the device to operate in fixed-frequency PWM mode. Mode pin = low enables the Power Save Mode with automatic transition from PFM mode to fixed-frequency PWM mode", 3 FB (in) "Feedback Pin for the internal regulation loop. Connect the external resistor divider to this pin. In case of fixed output voltage option, connect this pin directly to the output capacitor", 4 EN (in) "This is the enable pin of the device. Pulling this pin to low forces the device into shutdown mode. Pulling this pin to high enables the device. This pin must be terminated.", 5 VIN (power) "VIN power supply pin", 6 GND (power) "GND supply pin", 7 EP "Exposed Thermal Pad"
text: PP

## TPS62291DRVT
designator U?
Buck Step Down Regulator with 2.3 to 6 V Input and 3.3 V Output, -40 to 85 degC, 6-Pin SON (DRV), Green (RoHS & no Sb/Br); Manufacturer: Texas Instruments; PartNumber: TPS62291DRVT; Duty Cycle(Max)(%): 100; Iout(Max)(A): 1; Iq(Typ)(mA): 0.015; Preset Vout(V): 3.3; Rating: Catalog; SubFamily: Step-Down Regulator; Switch Current Limit(Typ)(A): 1.4; Synchronous Rectification: TRUE; Vin(Max)(V): 6; Vin(Min)(V): 2.3; DatasheetVersion: SLVS764C; PackageVersion: revE, Oct-2010; PackageReference: DRV6-1600X1000TP; PackageDescription: 6-Pin Plastic Small Outline No-Lead, 2 x 2 x 0.8 mm Body, 0.65 mm Pitch, Exposed Pad; Supplier 1: Digi-Key; Supplier Part Number 1: 296-23330-2-ND; Supplier 7: Mouser; Supplier Part Number 7: 595-TPS62291DRVT; Eco-Plan: Green (RoHS & no Sb/Br); Regulated Outputs(#): 1; Topology: Buck; Vout(Max)(V): 3.3; Vout(Min)(V): 3.3; Mounting Technology: Surface Mount; ComponentLink1Description: Datasheet; ComponentLink1URL: http://www.ti.com/general/docs/lit/getliterature.tsp?genericPartNumber=TPS62291&fileType=pdf; ComponentLink2Description: Package Specification; ComponentLink2URL: http://www.ti.com/litv/pdf/mpds216d; ComponentLink3Description: URL Link1; ComponentLink3URL: Samples URL:http://www.ti.com/product/tps62291#samples
footprint DRV6-1600X1000TP (SON, 6-Leads, Body 2x2mm, Pitch 0.65mm, Thermal Pad 1.6x1mm, TI Recommended)
pins: 1 SW (power) "This is the switch pin and is connected to the internal MOSFET switches. Connect the external inductor between this terminal and the output capacitor.", 2 MODE (in) "MODE pin = high forces the device to operate in fixed-frequency PWM mode. Mode pin = low enables the Power Save Mode with automatic transition from PFM mode to fixed-frequency PWM mode", 3 FB (in) "Feedback Pin for the internal regulation loop. Connect the external resistor divider to this pin. In case of fixed output voltage option, connect this pin directly to the output capacitor", 4 EN (in) "This is the enable pin of the device. Pulling this pin to low forces the device into shutdown mode. Pulling this pin to high enables the device. This pin must be terminated.", 5 VIN (power) "VIN power supply pin", 6 GND (power) "GND supply pin", 7 EP "Exposed Thermal Pad"
text: PP

## TPS62291DRVTG4
designator U?
Buck Step Down Regulator with 2.3 to 6 V Input and 3.3 V Output, -40 to 85 degC, 6-Pin SON (DRV), Green (RoHS & no Sb/Br); Manufacturer: Texas Instruments; PartNumber: TPS62291DRVTG4; Duty Cycle(Max)(%): 100; Iout(Max)(A): 1; Iq(Typ)(mA): 0.015; Preset Vout(V): 3.3; Rating: Catalog; SubFamily: Step-Down Regulator; Switch Current Limit(Typ)(A): 1.4; Synchronous Rectification: TRUE; Vin(Max)(V): 6; Vin(Min)(V): 2.3; DatasheetVersion: SLVS764C; PackageVersion: revE, Oct-2010; PackageReference: DRV6-1600X1000TP; PackageDescription: 6-Pin Plastic Small Outline No-Lead, 2 x 2 x 0.8 mm Body, 0.65 mm Pitch, Exposed Pad; Supplier 1: Digi-Key; Supplier Part Number 1: TPS62291DRVTG4-ND; Eco-Plan: Green (RoHS & no Sb/Br); Regulated Outputs(#): 1; Topology: Buck; Vout(Max)(V): 3.3; Vout(Min)(V): 3.3; Mounting Technology: Surface Mount; ComponentLink1Description: Datasheet; ComponentLink1URL: http://www.ti.com/general/docs/lit/getliterature.tsp?genericPartNumber=TPS62291&fileType=pdf; ComponentLink2Description: Package Specification; ComponentLink2URL: http://www.ti.com/litv/pdf/mpds216d; ComponentLink3Description: URL Link1; ComponentLink3URL: Samples URL:http://www.ti.com/product/tps54611#samples
footprint DRV6-1600X1000TP (SON, 6-Leads, Body 2x2mm, Pitch 0.65mm, Thermal Pad 1.6x1mm, TI Recommended)
pins: 1 SW (power) "This is the switch pin and is connected to the internal MOSFET switches. Connect the external inductor between this terminal and the output capacitor.", 2 MODE (in) "MODE pin = high forces the device to operate in fixed-frequency PWM mode. Mode pin = low enables the Power Save Mode with automatic transition from PFM mode to fixed-frequency PWM mode", 3 FB (in) "Feedback Pin for the internal regulation loop. Connect the external resistor divider to this pin. In case of fixed output voltage option, connect this pin directly to the output capacitor", 4 EN (in) "This is the enable pin of the device. Pulling this pin to low forces the device into shutdown mode. Pulling this pin to high enables the device. This pin must be terminated.", 5 VIN (power) "VIN power supply pin", 6 GND (power) "GND supply pin", 7 EP "Exposed Thermal Pad"
text: PP